# Altium schematic symbol library B66359.SchLib: 1 symbol
Pins are listed as number, name and electrical type; pins without a type are passive.

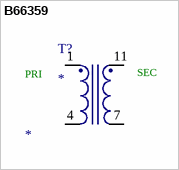
[diagram p0: symbol B66359]

## B66359
designator T?
MfrPartNo: *
pins: 1, 2, 3, 4, 5 (power), 6 (power), 7 (power), 8 (power), 9 (power), 10 (power), 11 (power), 12 (power), 13 (power)
text: PRI; SEC